# Altium footprint library WR-MCX.PcbLib: 13 footprints
Each footprint in its own frame and in the unit in brackets; x right, y up, seen from the top. Pads: shape width x height; smd on the part's side, far side on the other; paste and mask are expansions set on the pad; w line width, h text height; cw(c..) or ccw(c..) is an arc to the next point about the centre after c.
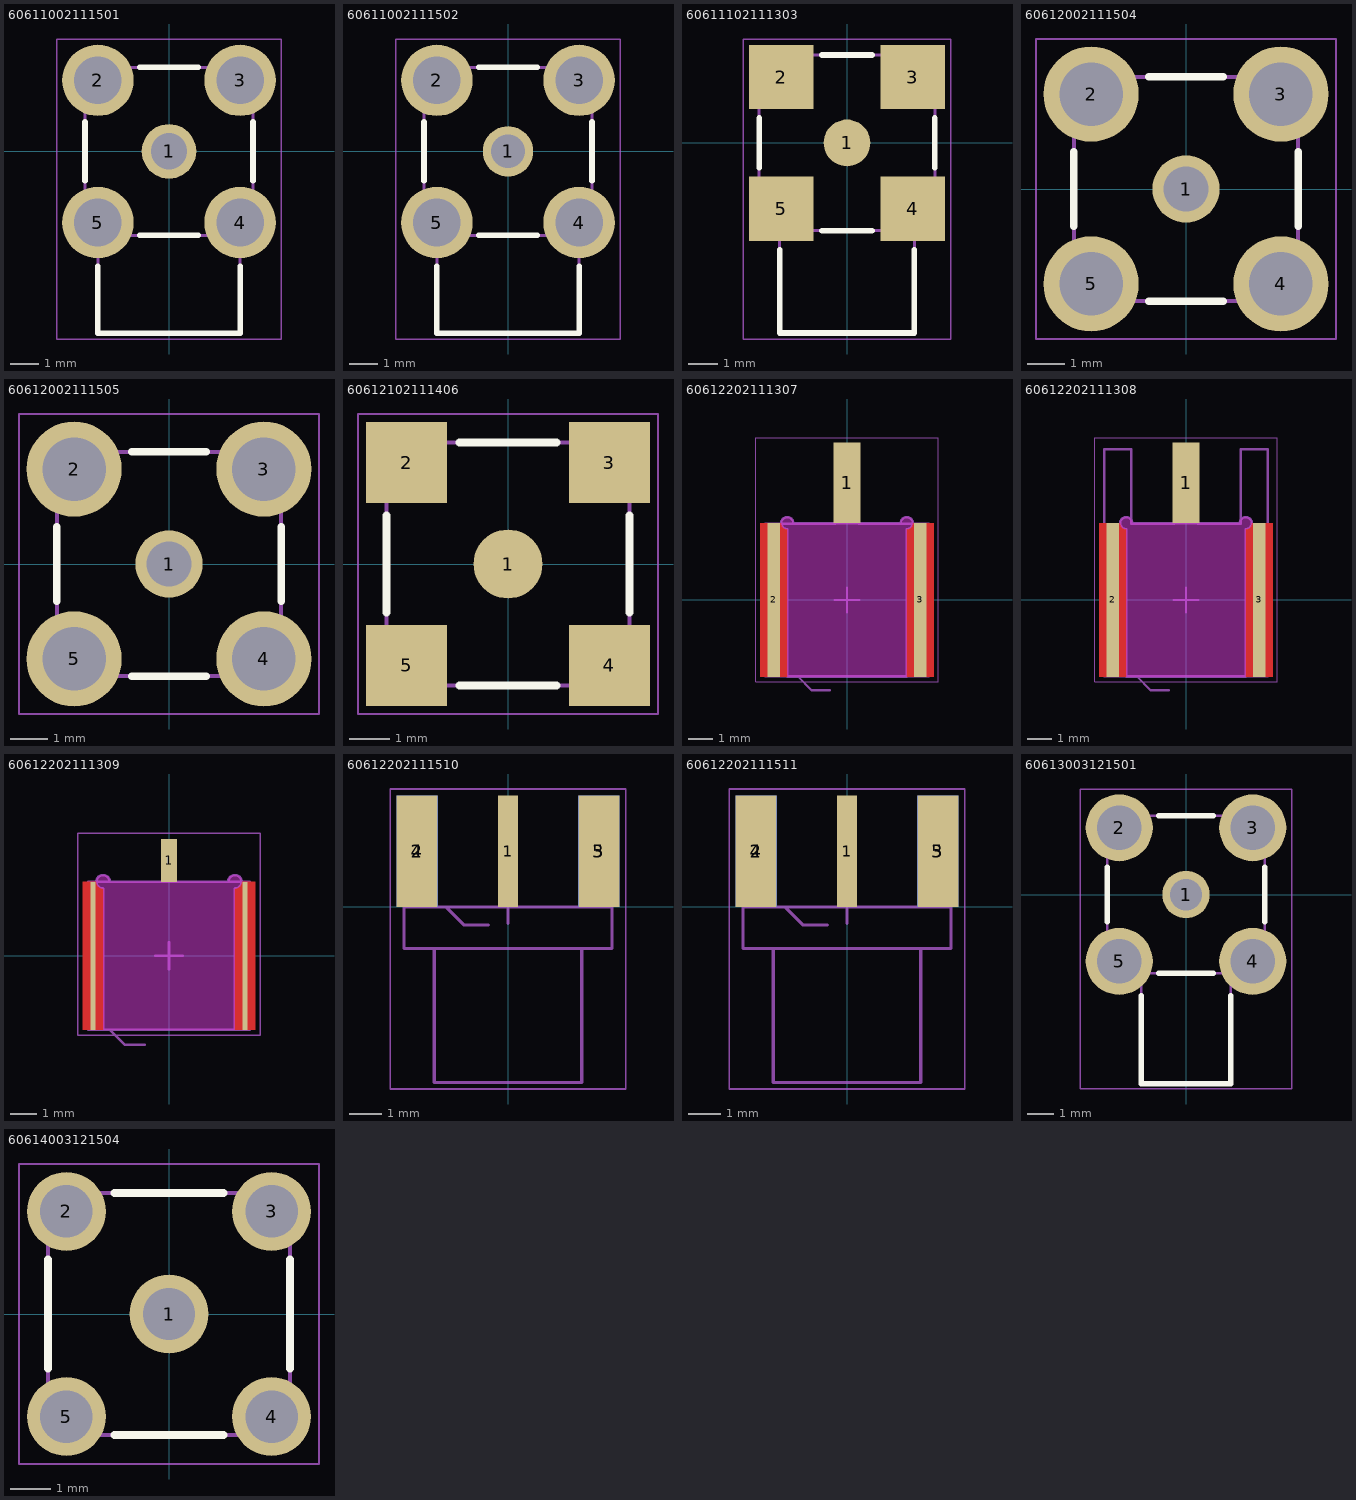
[diagram p0: the footprints below, top view; thin cyan lines are the x and y axes]

## 60611002111501 [mm] "MCX PCB THT Jack"
height 6
pads (5):
  round 1.95 hole 1.3: 1(0,0)
  round 2.55 hole 1.7: 2(-2.54,2.54) 3(2.54,2.54) 4(2.54,-2.54) 5(-2.54,-2.54)
Top Overlay:
  lines w0.2: -3,-1.05 -3,1.05 ; -2.54,-4.1 -2.54,-6.5 2.54,-6.5 2.54,-4.1 ; -1.05,-3 1.05,-3 ; -1.05,3 1.05,3 ; 3,-1.05 3,1.05
Top Assembly:
  lines w0.1: -2.54,-3 -2.54,-6.5 2.54,-6.5 2.54,-3 ; -3,-3 3,-3 3,3 -3,3 -3,-3
Top Designator:
  text ".Designator" at -3.647,-0.357 h1
Top 3D Body:
  lines w0.1: -3,-3 3,-3 ; -3,-3 -3,3 ; -3,-3 -3,3 ; -3,-3 3,-3 ; -3,3 3,3 ; -3,3 3,3 ; -2.54,-6.5 -2.54,-3 -2.54,-6.5 ; -2.54,-6.5 2.54,-6.5 ; -2.54,-6.5 2.54,-6.5 ; 2.54,-6.5 2.54,-3 2.54,-6.5 ; 3,-3 3,3 ; 3,-3 3,3
Top Courtyard:
  lines w0.05: -4.015,-6.7 -4.015,4.015 4.015,4.015 4.015,-6.7 -4.015,-6.7
Top Component Center:
  lines w0.1: -0.5,0 0.5,0 ; 0,-0.5 0,0.5
3D body "60611002111501.stp": height 6, standoff -3.94, extent -3,-6.5 3,3

## 60611002111502 [mm] "MCX PCB THT Jack"
height 6
pads (5):
  round 1.8 hole 1.2: 1(0,0)
  round 2.55 hole 1.7: 2(-2.54,2.54) 3(2.54,2.54) 4(2.54,-2.54) 5(-2.54,-2.54)
Top Overlay:
  lines w0.2: -3,-1.05 -3,1.05 ; -2.54,-4.1 -2.54,-6.5 2.54,-6.5 2.54,-4.1 ; -1.05,-3 1.05,-3 ; -1.05,3 1.05,3 ; 3,-1.05 3,1.05
Top Assembly:
  lines w0.1: -2.54,-3 -2.54,-6.5 2.54,-6.5 2.54,-3 ; -3,-3 -3,3 3,3 3,-3 -3,-3
Top Designator:
  text ".Designator" at -3.647,-0.357 h1
Top 3D Body:
  lines w0.1: -3,-3 3,-3 ; -3,-3 -3,3 ; -3,-3 -3,3 ; -3,-3 3,-3 ; -3,3 3,3 ; -3,3 3,3 ; -2.54,-6.5 -2.54,-3 -2.54,-6.5 ; -2.54,-6.5 2.54,-6.5 ; -2.54,-6.5 2.54,-6.5 ; 2.54,-6.5 2.54,-3 2.54,-6.5 ; 3,-3 3,3 ; 3,-3 3,3
Top Courtyard:
  lines w0.05: -4.015,-6.7 4.015,-6.7 4.015,4.015 -4.015,4.015 -4.015,-6.7
Top Component Center:
  lines w0.1: -0.5,0 0.5,0 ; 0,-0.5 0,0.5
3D body "60611002111502.stp": height 6, standoff -1.73, extent -3,-6.5 3,3

## 60611102111303 [mm] "MCX SMT Jack"
height 5.7
pads (5):
  round 1.6 smd: 1(0,0)
  rect 2.2x2.2 smd: 2(-2.25,2.25) 3(2.25,2.25) 4(2.25,-2.25) 5(-2.25,-2.25)
Top Overlay:
  lines w0.2: -3,-0.85 -3,0.85 ; -2.3,-3.65 -2.3,-6.5 2.3,-6.5 2.3,-3.65 ; -0.85,-3 0.85,-3 ; -0.85,3 0.85,3 ; 3,-0.85 3,0.85
Top Assembly:
  lines w0.1: -2.3,-3 -2.3,-6.5 2.3,-6.5 2.3,-3 ; -3,-3 3,-3 3,3 -3,3 -3,-3
Top Designator:
  text ".Designator" at -3.647,-0.357 h1
Top 3D Body:
  lines w0.1: -3,-3 -3,3 ; -3,-3 3,-3 ; -3,-3 3,-3 ; -3,-3 -3,3 ; -3,3 3,3 ; -3,3 3,3 ; -2.3,-6.5 2.3,-6.5 ; -2.3,-6.5 -2.3,-3 -2.3,-6.5 ; -2.3,-6.5 2.3,-6.5 ; 2.3,-6.5 2.3,-3 2.3,-6.5 ; 3,-3 3,3 ; 3,-3 3,3
Top Courtyard:
  lines w0.05: -3.55,-6.7 3.55,-6.7 3.55,3.55 -3.55,3.55 -3.55,-6.7
Top Component Center:
  lines w0.1: -0.5,0 0.5,0 ; 0,-0.5 0,0.5
3D body "60611102111303.stp": height 5.7, standoff 0, extent -3,-6.5 3,3

## 60612002111504 [mm] "MCX PCB THT Jack"
height 6.06
pads (5):
  round 1.8 hole 1.2: 1(0,0)
  round 2.55 hole 1.7: 2(-2.54,2.54) 3(2.54,2.54) 4(2.54,-2.54) 5(-2.54,-2.54)
Top Overlay:
  lines w0.2: -3,-1 -3,1 ; -1,-3 1,-3 ; -1,3 1,3 ; 3,-1 3,1
Top Assembly:
  lines w0.1: -3,-3 3,-3 3,3 -3,3 -3,-3
Top Designator:
  text ".Designator" at -3.647,-0.357 h1
Top 3D Body:
  lines w0.1: -3,-3 3,-3 ; -3,-3 -3,3 ; -3,-3 -3,3 ; -3,-3 3,-3 ; -3,3 3,3 ; -3,3 3,3 ; 3,-3 3,3 ; 3,-3 3,3
Top Courtyard:
  lines w0.05: -4.015,-4.015 4.015,-4.015 4.015,4.015 -4.015,4.015 -4.015,-4.015
Top Component Center:
  lines w0.1: -0.5,0 0.5,0 ; 0,-0.5 0,0.5
3D body "60612002111504.stp": height 6.06, standoff -3.94, extent -3,-3 3,3

## 60612002111505 [mm] "MCX PCB THT Jack"
height 6.06
pads (5):
  round 1.8 hole 1.2: 1(0,0)
  round 2.55 hole 1.7: 2(-2.54,2.54) 3(2.54,2.54) 4(2.54,-2.54) 5(-2.54,-2.54)
Top Overlay:
  lines w0.2: -3,-1 -3,1 ; -1,-3 1,-3 ; -1,3 1,3 ; 3,-1 3,1
Top Assembly:
  lines w0.1: -3,-3 -3,3 3,3 3,-3 -3,-3
Top Designator:
  text ".Designator" at -3.647,-0.357 h1
Top 3D Body:
  lines w0.1: -3,-3 3,-3 ; -3,-3 -3,3 ; -3,-3 -3,3 ; -3,-3 3,-3 ; -3,3 3,3 ; -3,3 3,3 ; 3,-3 3,3 ; 3,-3 3,3
Top Courtyard:
  lines w0.05: -4.015,-4.015 -4.015,4.015 4.015,4.015 4.015,-4.015 -4.015,-4.015
Top Component Center:
  lines w0.1: -0.5,0 0.5,0 ; 0,-0.5 0,0.5
3D body "60612002111505.stp": height 6.06, standoff -1.73, extent -3,-3 3,3

## 60612102111406 [mm] "MCX SMT Jack"
height 5.9
pads (5):
  round 1.7 smd: 1(0,0)
  rect 2x2 smd: 2(-2.5,2.5) 3(2.5,2.5) 4(2.5,-2.5) 5(-2.5,-2.5)
Top Overlay:
  lines w0.2: -3,-1.2 -3,1.2 ; -1.2,-3 1.2,-3 ; -1.2,3 1.2,3 ; 3,-1.2 3,1.2
Top Assembly:
  lines w0.1: -3,-3 3,-3 3,3 -3,3 -3,-3
Top Designator:
  text ".Designator" at -3.647,-0.357 h1
Top 3D Body:
  lines w0.1: -3,-3 3,-3 ; -3,-3 -3,3 ; -3,-3 -3,3 ; -3,-3 3,-3 ; -3,3 3,3 ; -3,3 3,3 ; 3,-3 3,3 ; 3,-3 3,3
Top Courtyard:
  lines w0.05: -3.7,-3.7 3.7,-3.7 3.7,3.7 -3.7,3.7 -3.7,-3.7
Top Component Center:
  lines w0.1: -0.5,0 0.5,0 ; 0,-0.5 0,0.5
3D body "60612102111406.stp": height 5.9, standoff 0, extent -3,-3 3,3
3D body "60612102111406.stp": height 5.9, standoff 0, extent -3,-3 3,3

## 60612202111307 [mm] "MCX PCB End Launch Jack"
height 5
pads (3):
  rect 1.1x3.3 smd: 1(0,4.8)
  rect 0.5x6.3 smd paste+0: 2(-3,0) 3(3,0)
Top Layer:
  region: 3.55,-3.15 2.45,-3.15 2.45,2.9 2.499,2.905 2.589,2.942 2.658,3.011 2.695,3.101 2.7,3.15 3.55,3.15
  region: -3.55,-3.15 -2.45,-3.15 -2.45,2.9 -2.499,2.905 -2.589,2.942 -2.658,3.011 -2.695,3.101 -2.7,3.15 -3.55,3.15
Keep-Out Layer:
  board cut-out: -2.45,-3.15 2.45,-3.15 2.45,2.9 2.526,2.9 2.652,2.984 2.71,3.124 2.68,3.273 2.573,3.38 2.424,3.41 2.284,3.352 2.2,3.226 2.2,3.15 -2.2,3.15 -2.2,3.226 -2.284,3.352 -2.424,3.41 -2.573,3.38 -2.68,3.273 -2.71,3.124 -2.652,2.984 -2.526,2.9 -2.45,2.9
Assembly Notes:
  lines w0.1: -2,-3.15 -1.45,-3.7 -0.7,-3.7 ; -2.45,-3.15 -2.45,2.9 cw(c-2.45,3.15) -2.2,3.15 2.2,3.15 cw(c2.45,3.15) 2.45,2.9 2.45,-3.15 -2.45,-3.15
  text "PCB Cutout" at -2,-0.3 h0.51
  text "PCB END" at -0.5,-4 h0.51
Top Assembly:
  lines w0.1: -3.35,-3.125 3.35,-3.125 3.35,3.125 0.48,3.125 0.48,6.175 -0.48,6.175 -0.48,3.125 -3.35,3.125 -3.35,-3.125
Top Designator:
  text ".Designator" at -3.647,-0.357 h1
Top 3D Body:
  lines w0.1: -3.35,-3.125 -3.35,3.125 ; -3.35,-3.125 3.35,-3.125 ; -3.35,-3.125 3.35,-3.125 ; -3.35,-3.125 -3.35,3.125 ; -3.35,3.125 -0.48,3.125 ; -3.35,3.125 -0.48,3.125 ; -0.48,3.125 -0.48,6.175 ; -0.48,3.125 -0.48,6.175 ; -0.48,6.175 0.48,6.175 ; -0.48,6.175 0.48,6.175 ; 0.48,3.125 3.35,3.125 ; 0.48,3.125 0.48,6.175 ; 0.48,3.125 0.48,6.175 ; 0.48,3.125 3.35,3.125 ; 3.35,-3.125 3.35,3.125 ; 3.35,-3.125 3.35,3.125
Top Courtyard:
  lines w0.05: -3.75,-3.35 3.75,-3.35 3.75,6.65 -3.75,6.65 -3.75,-3.35
Top Component Center:
  lines w0.1: -0.5,0 0.5,0 ; 0,-0.5 0,0.5
3D body "60612202111307.stp": height 2.98, standoff -2.02, extent -3.35,-3.125 3.35,6.175

## 60612202111308 [mm] "MCX PCB End Launch Jack"
height 5
pads (3):
  rect 1.1x3.3 smd: 1(0,4.8)
  rect 0.5x6.3 smd paste+0: 2(-3,0) 3(3,0)
Top Layer:
  region: 3.55,-3.15 2.45,-3.15 2.45,2.9 2.499,2.905 2.589,2.942 2.658,3.011 2.695,3.101 2.7,3.15 3.55,3.15
  region: -3.55,-3.15 -2.45,-3.15 -2.45,2.9 -2.499,2.905 -2.589,2.942 -2.658,3.011 -2.695,3.101 -2.7,3.15 -3.55,3.15
Keep-Out Layer:
  board cut-out: -2.45,-3.15 2.45,-3.15 2.45,2.9 2.526,2.9 2.652,2.984 2.71,3.124 2.68,3.273 2.573,3.38 2.424,3.41 2.284,3.352 2.2,3.226 2.2,3.15 -2.2,3.15 -2.2,3.226 -2.284,3.352 -2.424,3.41 -2.573,3.38 -2.68,3.273 -2.71,3.124 -2.652,2.984 -2.526,2.9 -2.45,2.9
Assembly Notes:
  lines w0.1: -2,-3.15 -1.45,-3.7 -0.7,-3.7 ; -2.45,-3.15 -2.45,2.9 cw(c-2.45,3.15) -2.2,3.15 2.2,3.15 cw(c2.45,3.15) 2.45,2.9 2.45,-3.15 -2.45,-3.15
  text "PCB Cutout" at -2,-0.3 h0.51
  text "PCB END" at -0.5,-4 h0.51
Top Assembly:
  lines w0.1: -3.35,-3.125 3.35,-3.125 3.35,6.175 2.25,6.175 2.25,3.125 0.48,3.125 0.48,6.175 -0.48,6.175 -0.48,3.125 -2.25,3.125 -2.25,6.175 -3.35,6.175 -3.35,-3.125
Top Designator:
  text ".Designator" at -3.647,-0.357 h1
Top 3D Body:
  lines w0.1: -3.35,-3.125 -3.35,6.175 ; -3.35,-3.125 3.35,-3.125 ; -3.35,-3.125 3.35,-3.125 ; -3.35,-3.125 -3.35,6.175 ; -3.35,6.175 -2.25,6.175 ; -3.35,6.175 -2.25,6.175 ; -2.25,3.125 -0.48,3.125 ; -2.25,3.125 -2.25,6.175 ; -2.25,3.125 -2.25,6.175 ; -2.25,3.125 -0.48,3.125 ; -0.48,3.125 -0.48,6.175 ; -0.48,3.125 -0.48,6.175 ; -0.48,6.175 0.48,6.175 ; -0.48,6.175 0.48,6.175 ; 0.48,3.125 2.25,3.125 ; 0.48,3.125 0.48,6.175 ; 0.48,3.125 0.48,6.175 ; 0.48,3.125 2.25,3.125 ; 2.25,3.125 2.25,6.175 ; 2.25,3.125 2.25,6.175 ; 2.25,6.175 3.35,6.175 ; 2.25,6.175 3.35,6.175 ; 3.35,-3.125 3.35,6.175 ; 3.35,-3.125 3.35,6.175
Top Courtyard:
  lines w0.05: -3.75,-3.35 3.75,-3.35 3.75,6.65 -3.75,6.65 -3.75,-3.35
Top Component Center:
  lines w0.1: -0.5,0 0.5,0 ; 0,-0.5 0,0.5
3D body "60612202111308.stp": height 2.98, standoff -2.02, extent -3.35,-3.15 3.35,6.15

## 60612202111309 [mm] "MCX PCB End Launch Jack"
height 5.2
pads (3):
  rect 0.6x1.6 smd: 1(0,3.55)
  rect 0.2x5.5 smd paste+0: 2(-2.825,0) 3(2.825,0)
Top Layer:
  region: -3.2,-2.75 -2.45,-2.75 -2.45,2.5 -2.499,2.505 -2.589,2.542 -2.658,2.611 -2.695,2.701 -2.7,2.75 -3.2,2.75
  region: 3.2,-2.75 2.45,-2.75 2.45,2.5 2.499,2.505 2.589,2.542 2.658,2.611 2.695,2.701 2.7,2.75 3.2,2.75
Keep-Out Layer:
  board cut-out: -2.45,-2.75 2.45,-2.75 2.45,2.5 2.526,2.5 2.652,2.584 2.71,2.724 2.68,2.873 2.573,2.98 2.424,3.01 2.284,2.952 2.2,2.826 2.2,2.75 -2.2,2.75 -2.2,2.826 -2.284,2.952 -2.424,3.01 -2.573,2.98 -2.68,2.873 -2.71,2.724 -2.652,2.584 -2.526,2.5 -2.45,2.5
Assembly Notes:
  lines w0.1: -2.2,-2.75 -1.65,-3.3 -0.9,-3.3 ; -2.45,-2.75 2.45,-2.75 2.45,2.5 ccw(c2.45,2.75) 2.2,2.75 -2.2,2.75 ccw(c-2.45,2.75) -2.45,2.5 -2.45,-2.75
  text "PCB Cutout" at -2,-0.3 h0.51
  text "PCB END" at -0.7,-3.6 h0.51
Top Assembly:
  lines w0.1: -3,-2.75 -3,2.75 -0.25,2.75 -0.25,4.13 0.25,4.13 0.25,2.75 3,2.75 3,-2.75 -3,-2.75
Top Designator:
  text ".Designator" at -3.647,-0.357 h1
Top 3D Body:
  lines w0.1: -3,-2.75 3,-2.75 ; -3,-2.75 -3,2.75 ; -3,-2.75 -3,2.75 ; -3,-2.75 3,-2.75 ; -3,2.75 -0.25,2.75 ; -3,2.75 -0.25,2.75 ; -0.25,2.75 -0.25,4.13 ; -0.25,2.75 -0.25,4.13 ; -0.25,4.13 0.25,4.13 ; -0.25,4.13 0.25,4.13 ; 0.25,2.75 3,2.75 ; 0.25,2.75 0.25,4.13 ; 0.25,2.75 0.25,4.13 ; 0.25,2.75 3,2.75 ; 3,-2.75 3,2.75 ; 3,-2.75 3,2.75
Top Courtyard:
  lines w0.05: -3.4,-2.95 -3.4,4.55 3.4,4.55 3.4,-2.95 -3.4,-2.95
Top Component Center:
  lines w0.1: -0.5,0 0.5,0 ; 0,-0.5 0,0.5
3D body "60612202111309.stp": height 2.85, standoff -2.35, extent -2.999,-2.75 2.999,4.13

## 60612202111510 [mm] "MCX PCB End Launch Jack"
height 6.35
pads (5):
  rect 0.6x3.4 smd: 1(0,1.7)
  rect 1.25x3.4 smd: 2(-2.775,1.7) 3(2.775,1.7)
  rect 1.25x3.4 smd far side: 4(-2.775,1.7) 5(2.775,1.7)
Assembly Notes:
  lines w0.1: -3.175,0 3.175,0 ; -1.9,0 -1.35,-0.55 -0.6,-0.55
  text "PCB END" at -0.4,-0.85 h0.51
Top Assembly:
  lines w0.1: -2.25,-1.27 -2.25,-5.36 2.25,-5.36 2.25,-1.27 ; 2.365,3.175 2.365,0 0.24,0 0.24,3.175 -0.24,3.175 -0.24,0 -2.365,0 -2.365,3.175 -2.37,3.18 -3.175,3.18 -3.175,-1.27 3.175,-1.27 3.175,3.18 2.37,3.18
Top Designator:
  text ".Designator" at -3.647,-0.357 h1
Top 3D Body:
  lines w0.1: -3.175,-1.27 3.175,-1.27 ; -3.175,-1.27 -3.175,3.18 ; -3.175,-1.27 -3.175,3.18 ; -3.175,-1.27 3.175,-1.27 ; -3.175,3.18 -2.37,3.18 ; -3.175,3.18 -2.37,3.18 ; -2.37,3.18 -2.365,3.175 ; -2.37,3.18 -2.365,3.175 ; -2.365,0 -0.24,0 ; -2.365,0 -2.365,3.175 ; -2.365,0 -2.365,3.175 ; -2.365,0 -0.24,0 ; -2.25,-5.36 -2.25,-1.27 -2.25,-5.36 ; -2.25,-5.36 2.25,-5.36 ; -2.25,-5.36 2.25,-5.36 ; -0.24,0 -0.24,3.175 ; -0.24,0 -0.24,3.175 ; -0.24,3.175 0.24,3.175 ; -0.24,3.175 0.24,3.175 ; 0.24,0 0.24,3.175 ; 0.24,0 2.365,0 ; 0.24,0 2.365,0 ; 0.24,0 0.24,3.175 ; 2.25,-5.36 2.25,-1.27 2.25,-5.36 ; 2.365,0 2.365,3.175 2.365,0 ; 3.175,-1.27 3.175,3.18 ; 3.175,-1.27 3.175,3.18 ; 3.175,3.18 2.37,3.18 3.175,3.18
Top Courtyard:
  lines w0.05: -3.6,-5.56 3.6,-5.56 3.6,3.6 -3.6,3.6 -3.6,-5.56
Top Component Center:
  lines w0.1: -0.5,0 0.5,0 ; 0,-0.5 0,0.5
3D body "60612202111510.stp": height 3.41, standoff -2.94, extent -3.175,-5.365 3.175,3.175

## 60612202111511 [mm] "MCX PCB End Launch Jack"
height 6.35
pads (5):
  rect 0.6x3.4 smd: 1(0,1.7)
  rect 1.25x3.4 smd: 2(-2.775,1.7) 3(2.775,1.7)
  rect 1.25x3.4 smd far side: 4(-2.775,1.7) 5(2.775,1.7)
Assembly Notes:
  lines w0.1: -3.175,0 3.175,0 ; -1.9,0 -1.35,-0.55 -0.6,-0.55
  text "PCB END" at -0.4,-0.85 h0.51
Top Assembly:
  lines w0.1: -2.25,-1.27 -2.25,-5.36 2.25,-5.36 2.25,-1.27 ; 2.365,3.175 2.365,0 0.24,0 0.24,3.175 -0.24,3.175 -0.24,0 -2.365,0 -2.365,3.175 -2.37,3.18 -3.175,3.18 -3.175,-1.27 3.175,-1.27 3.175,3.18 2.37,3.18
Top Designator:
  text ".Designator" at -3.647,-0.357 h1
Top 3D Body:
  lines w0.1: -3.175,-1.27 -3.175,3.18 ; -3.175,-1.27 3.175,-1.27 ; -3.175,-1.27 3.175,-1.27 ; -3.175,-1.27 -3.175,3.18 ; -3.175,3.18 -2.37,3.18 ; -3.175,3.18 -2.37,3.18 ; -2.37,3.18 -2.365,3.175 ; -2.37,3.18 -2.365,3.175 ; -2.365,0 -2.365,3.175 ; -2.365,0 -0.24,0 ; -2.365,0 -0.24,0 ; -2.365,0 -2.365,3.175 ; -2.25,-5.36 2.25,-5.36 ; -2.25,-5.36 -2.25,-1.27 -2.25,-5.36 ; -2.25,-5.36 2.25,-5.36 ; -0.24,0 -0.24,3.175 ; -0.24,0 -0.24,3.175 ; -0.24,3.175 0.24,3.175 ; -0.24,3.175 0.24,3.175 ; 0.24,0 2.365,0 ; 0.24,0 0.24,3.175 ; 0.24,0 0.24,3.175 ; 0.24,0 2.365,0 ; 2.25,-5.36 2.25,-1.27 2.25,-5.36 ; 2.365,0 2.365,3.175 2.365,0 ; 3.175,-1.27 3.175,3.18 ; 3.175,-1.27 3.175,3.18 ; 3.175,3.18 2.37,3.18 3.175,3.18
Top Courtyard:
  lines w0.05: -3.6,-5.56 3.6,-5.56 3.6,3.6 -3.6,3.6 -3.6,-5.56
Top Component Center:
  lines w0.1: -0.5,0 0.5,0 ; 0,-0.5 0,0.5
3D body "60612202111511.stp": height 3.41, standoff -2.94, extent -3.175,-5.365 3.175,3.175

## 60613003121501 [mm] "MCX PCB THT Plug"
height 6
pads (5):
  round 1.8 hole 1.2: 1(0,0)
  round 2.55 hole 1.7: 2(-2.54,2.54) 3(2.54,2.54) 4(2.54,-2.54) 5(-2.54,-2.54)
Top Overlay:
  lines w0.2: -3,-1.05 -3,1.05 ; -1.7,-3.85 -1.7,-7.2 1.7,-7.2 1.7,-3.85 ; -1.05,-3 1.05,-3 ; -1.05,3 1.05,3 ; 3,-1.05 3,1.05
Top Assembly:
  lines w0.1: -1.7,-3 -1.7,-7.2 1.7,-7.2 1.7,-3 ; -3,-3 3,-3 3,3 -3,3 -3,-3
Top Designator:
  text ".Designator" at -3.647,-0.357 h1
Top 3D Body:
  lines w0.1: -3,-3 3,-3 ; -3,-3 -3,3 ; -3,-3 -3,3 ; -3,-3 3,-3 ; -3,3 3,3 ; -3,3 3,3 ; -1.7,-7.2 1.7,-7.2 ; -1.7,-7.2 -1.7,-3 -1.7,-7.2 ; -1.7,-7.2 1.7,-7.2 ; 1.7,-7.2 1.7,-3 1.7,-7.2 ; 3,-3 3,3 ; 3,-3 3,3
Top Courtyard:
  lines w0.05: -4.015,-7.4 -4.015,4.015 4.015,4.015 4.015,-7.4 -4.015,-7.4
Top Component Center:
  lines w0.1: -0.5,0 0.5,0 ; 0,-0.5 0,0.5
3D body "60613003121501.stp": height 6, standoff -3.94, extent -3,-7.2 3,3

## 60614003121504 [mm] "MCX PCB THT Plug"
height 6
pads (5):
  round 1.95 hole 1.3: 1(0,0) 2(-2.54,2.54) 3(2.54,2.54) 4(2.54,-2.54) 5(-2.54,-2.54)
Top Overlay:
  lines w0.2: -3,-1.35 -3,1.35 ; -1.35,-3 1.35,-3 ; -1.35,3 1.35,3 ; 3,-1.35 3,1.35
Top Assembly:
  lines w0.1: -3,-3 -3,3 3,3 3,-3 -3,-3
Top Designator:
  text ".Designator" at -3.647,-0.357 h1
Top 3D Body:
  lines w0.1: -3,-3 -3,3 ; -3,-3 3,-3 ; -3,-3 3,-3 ; -3,-3 -3,3 ; -3,3 3,3 ; -3,3 3,3 ; 3,-3 3,3 ; 3,-3 3,3
Top Courtyard:
  lines w0.05: -3.715,-3.715 -3.715,3.715 3.715,3.715 3.715,-3.715 -3.715,-3.715
Top Component Center:
  lines w0.1: -0.5,0 0.5,0 ; 0,-0.5 0,0.5
3D body "60614003121504.stp": height 5.8, standoff -3.9, extent -3,-3 3,3